# EAGLE library part MA08-1 (library 000001)
PIN HEADER
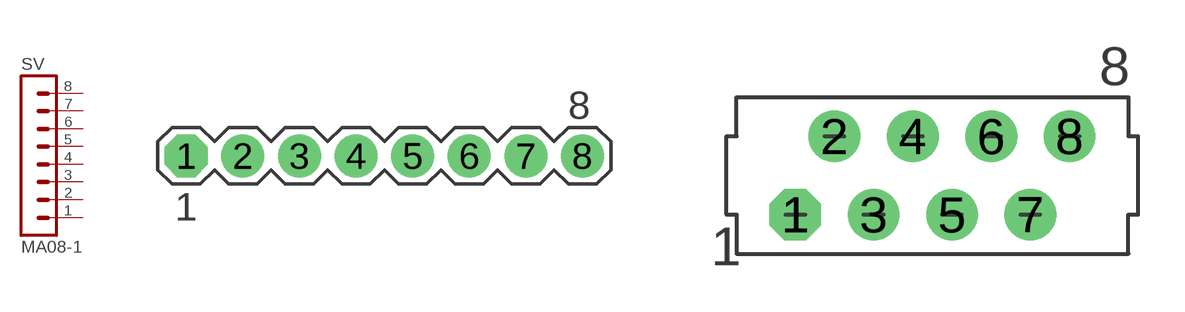
[diagram p4: symbol with the pads of MA08-1; footprints MA08-1, 215464-8]

Designator prefix SV

## MA08-1  [MA08-1]
1  1  pas
2  2  pas
3  3  pas
4  4  pas
5  5  pas
6  6  pas
7  7  pas
8  8  pas

## MA08-1T  [215464-8]
Pads as for MA08-1

## Footprint MA08-1 (pad centres in mm)
PIN HEADER
drill 1 pad 1.93 octagon: 1 -8.89,0
drill 1 pad 1.93 round: 2 -6.35,0; 3 -3.81,0; 4 -1.27,0; 5 1.27,0; 6 3.81,0; 7 6.35,0; 8 8.89,0

## Footprint 215464-8 (pad centres in mm)
drill 0.8 pad 1.676 octagon: 1 -4.445,-1.27
drill 0.8 pad 1.676 round: 2 -3.175,1.27; 3 -1.905,-1.27; 4 -0.635,1.27; 5 0.635,-1.27; 6 1.905,1.27; 7 3.175,-1.27; 8 4.445,1.27